# EAGLE library part 50208-015 (library con-aces-50208-series)
ACES CONNECTORS 50208 SERIES ACES Connecors 50208 <https://www.acesconn.com/tw/series/50208-xxxxx-xxx/1224>
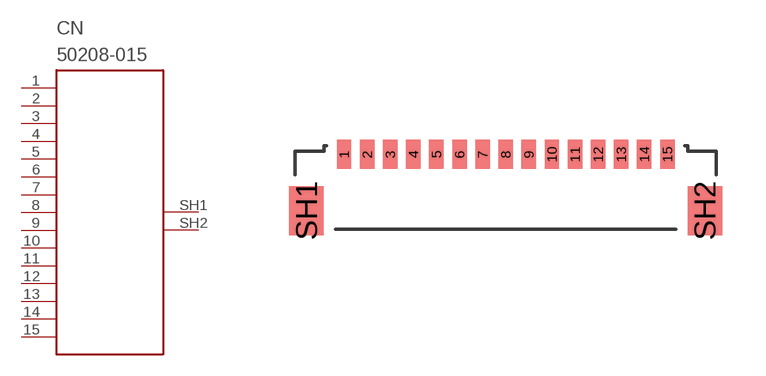
[diagram p11: symbol with the pads of 50208-015; footprint 50208-015]

Designator prefix CN

## 50208-015  [50208-015]
1  1
2  2
3  3
4  4
5  5
6  6
7  7
8  8
9  9
10  10
11  11
12  12
13  13
14  14
15  15
SH1  SH1
SH2  SH2

## Footprint 50208-015 (pad centres in mm)
smd 0.5 x 1: 1 -5.6,0; 2 -4.8,0; 3 -4,0; 4 -3.2,0; 5 -2.4,0; 6 -1.6,0; 7 -0.8,0; 8 0,0; 9 0.8,0; 10 1.6,0; 11 2.4,0; 12 3.2,0; 13 4,0; 14 4.8,0; 15 5.6,0
smd 1.2 x 1.7: SH1 -6.9,-1.95; SH2 6.9,-1.95